# Altium footprint library HDR-TH_108P-P2.54-H-R3-C36-S2.54-W10.2.PcbLib: 1 footprints
Each footprint in its own frame and in the unit in brackets; x right, y up, seen from the top. Pads: shape width x height; smd on the part's side, far side on the other; paste and mask are expansions set on the pad; w line width, h text height; cw(c..) or ccw(c..) is an arc to the next point about the centre after c.
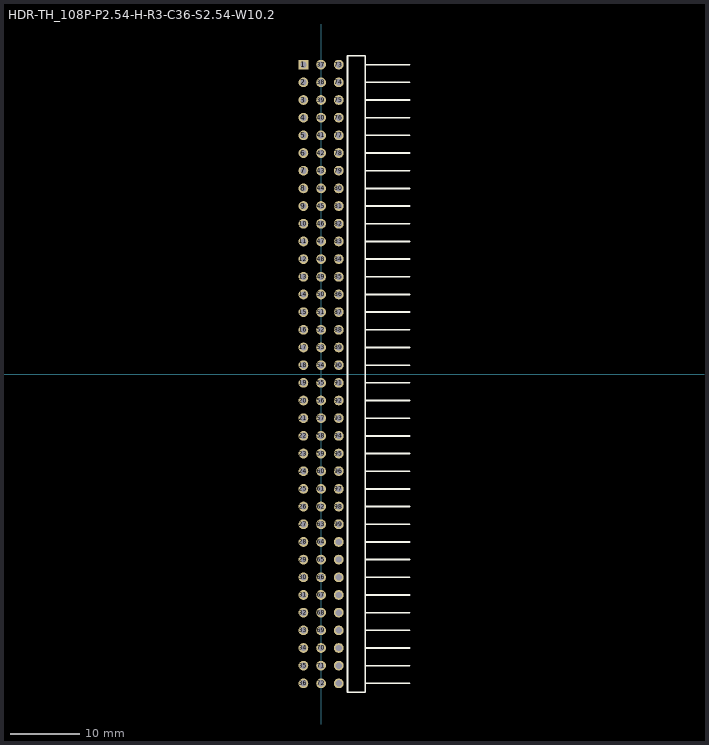
[diagram p0: the footprint, top view; thin cyan lines are the x and y axes]

## HDR-TH_108P-P2.54-H-R3-C36-S2.54-W10.2 [mm]
pads (108):
  rect 1.4x1.4 hole 0.9: 1(-2.54,44.45)
  round 1.4 hole 0.9: 2(-2.54,41.91) 3(-2.54,39.37) 4(-2.54,36.83) 5(-2.54,34.29) 6(-2.54,31.75) 7(-2.54,29.21) 8(-2.54,26.67) 9(-2.54,24.13) 10(-2.54,21.59) 11(-2.54,19.05) 12(-2.54,16.51) 13(-2.54,13.97) 14(-2.54,11.43) 15(-2.54,8.89) 16(-2.54,6.35) 17(-2.54,3.81) 18(-2.54,1.27) 19(-2.54,-1.27) 20(-2.54,-3.81) 21(-2.54,-6.35) 22(-2.54,-8.89) 23(-2.54,-11.43) 24(-2.54,-13.97) 25(-2.54,-16.51) 26(-2.54,-19.05) 27(-2.54,-21.59) 28(-2.54,-24.13) 29(-2.54,-26.67) 30(-2.54,-29.21) 31(-2.54,-31.75) 32(-2.54,-34.29) 33(-2.54,-36.83) 34(-2.54,-39.37) 35(-2.54,-41.91) 36(-2.54,-44.45) 37(0,44.45) 38(0,41.91) 39(0,39.37) 40(0,36.83) 41(0,34.29) 42(0,31.75) 43(0,29.21) 44(0,26.67) 45(0,24.13) 46(0,21.59) 47(0,19.05) 48(0,16.51) 49(0,13.97) 50(0,11.43) 51(0,8.89) 52(0,6.35) 53(0,3.81) 54(0,1.27) 55(0,-1.27) 56(0,-3.81) 57(0,-6.35) 58(0,-8.89) 59(0,-11.43) 60(0,-13.97) 61(0,-16.51) 62(0,-19.05) 63(0,-21.59) 64(0,-24.13) 65(0,-26.67) 66(0,-29.21) 67(0,-31.75) 68(0,-34.29) 69(0,-36.83) 70(0,-39.37) 71(0,-41.91) 72(0,-44.45) 73(2.54,44.45) 74(2.54,41.91) 75(2.54,39.37) 76(2.54,36.83) 77(2.54,34.29) 78(2.54,31.75) 79(2.54,29.21) 80(2.54,26.67) 81(2.54,24.13) 82(2.54,21.59) 83(2.54,19.05) 84(2.54,16.51) 85(2.54,13.97) 86(2.54,11.43) 87(2.54,8.89) 88(2.54,6.35) 89(2.54,3.81) 90(2.54,1.27) 91(2.54,-1.27) 92(2.54,-3.81) 93(2.54,-6.35) 94(2.54,-8.89) 95(2.54,-11.43) 96(2.54,-13.97) 97(2.54,-16.51) 98(2.54,-19.05) 99(2.54,-21.59) 100(2.54,-24.13) 101(2.54,-26.67) 102(2.54,-29.21) 103(2.54,-31.75) 104(2.54,-34.29) 105(2.54,-36.83) 106(2.54,-39.37) 107(2.54,-41.91) 108(2.54,-44.45)
Top Overlay:
  lines w0.254: 6.35,-44.45 12.7,-44.45 ; 6.35,-41.91 12.7,-41.91 ; 6.35,-39.37 12.7,-39.37 ; 6.35,-36.83 12.7,-36.83 ; 6.35,-34.29 12.7,-34.29 ; 6.35,-31.75 12.7,-31.75 ; 6.35,-29.21 12.7,-29.21 ; 6.35,-26.67 12.7,-26.67 ; 6.35,-24.13 12.7,-24.13 ; 6.35,-21.59 12.7,-21.59 ; 6.35,-19.05 12.7,-19.05 ; 6.35,-16.51 12.7,-16.51 ; 6.35,-13.97 12.7,-13.97 ; 6.35,-11.43 12.7,-11.43 ; 6.35,-8.89 12.7,-8.89 ; 6.35,-6.35 12.7,-6.35 ; 6.35,-3.81 12.7,-3.81 ; 6.35,-1.27 12.7,-1.27 ; 6.35,1.27 12.7,1.27 ; 6.35,3.81 12.7,3.81 ; 6.35,6.35 12.7,6.35 ; 6.35,8.89 12.7,8.89 ; 6.35,11.43 12.7,11.43 ; 6.35,13.97 12.7,13.97 ; 6.35,16.51 12.7,16.51 ; 6.35,19.05 12.7,19.05 ; 6.35,21.59 12.7,21.59 ; 6.35,24.13 12.7,24.13 ; 6.35,26.67 12.7,26.67 ; 6.35,29.21 12.7,29.21 ; 6.35,31.75 12.7,31.75 ; 6.35,34.29 12.7,34.29 ; 6.35,36.83 12.7,36.83 ; 6.35,39.37 12.7,39.37 ; 6.35,41.91 12.7,41.91 ; 6.35,44.45 12.7,44.45 ; 3.81,-45.72 6.35,-45.72 6.35,45.72 3.81,45.72 3.81,-45.72